# Altium footprint library resistors.PcbLib: 50 footprints (part 1 of 4)
Each footprint in its own frame and in the unit in brackets; x right, y up, seen from the top. Pads: shape width x height; smd on the part's side, far side on the other; paste and mask are expansions set on the pad; w line width, h text height; cw(c..) or ccw(c..) is an arc to the next point about the centre after c.
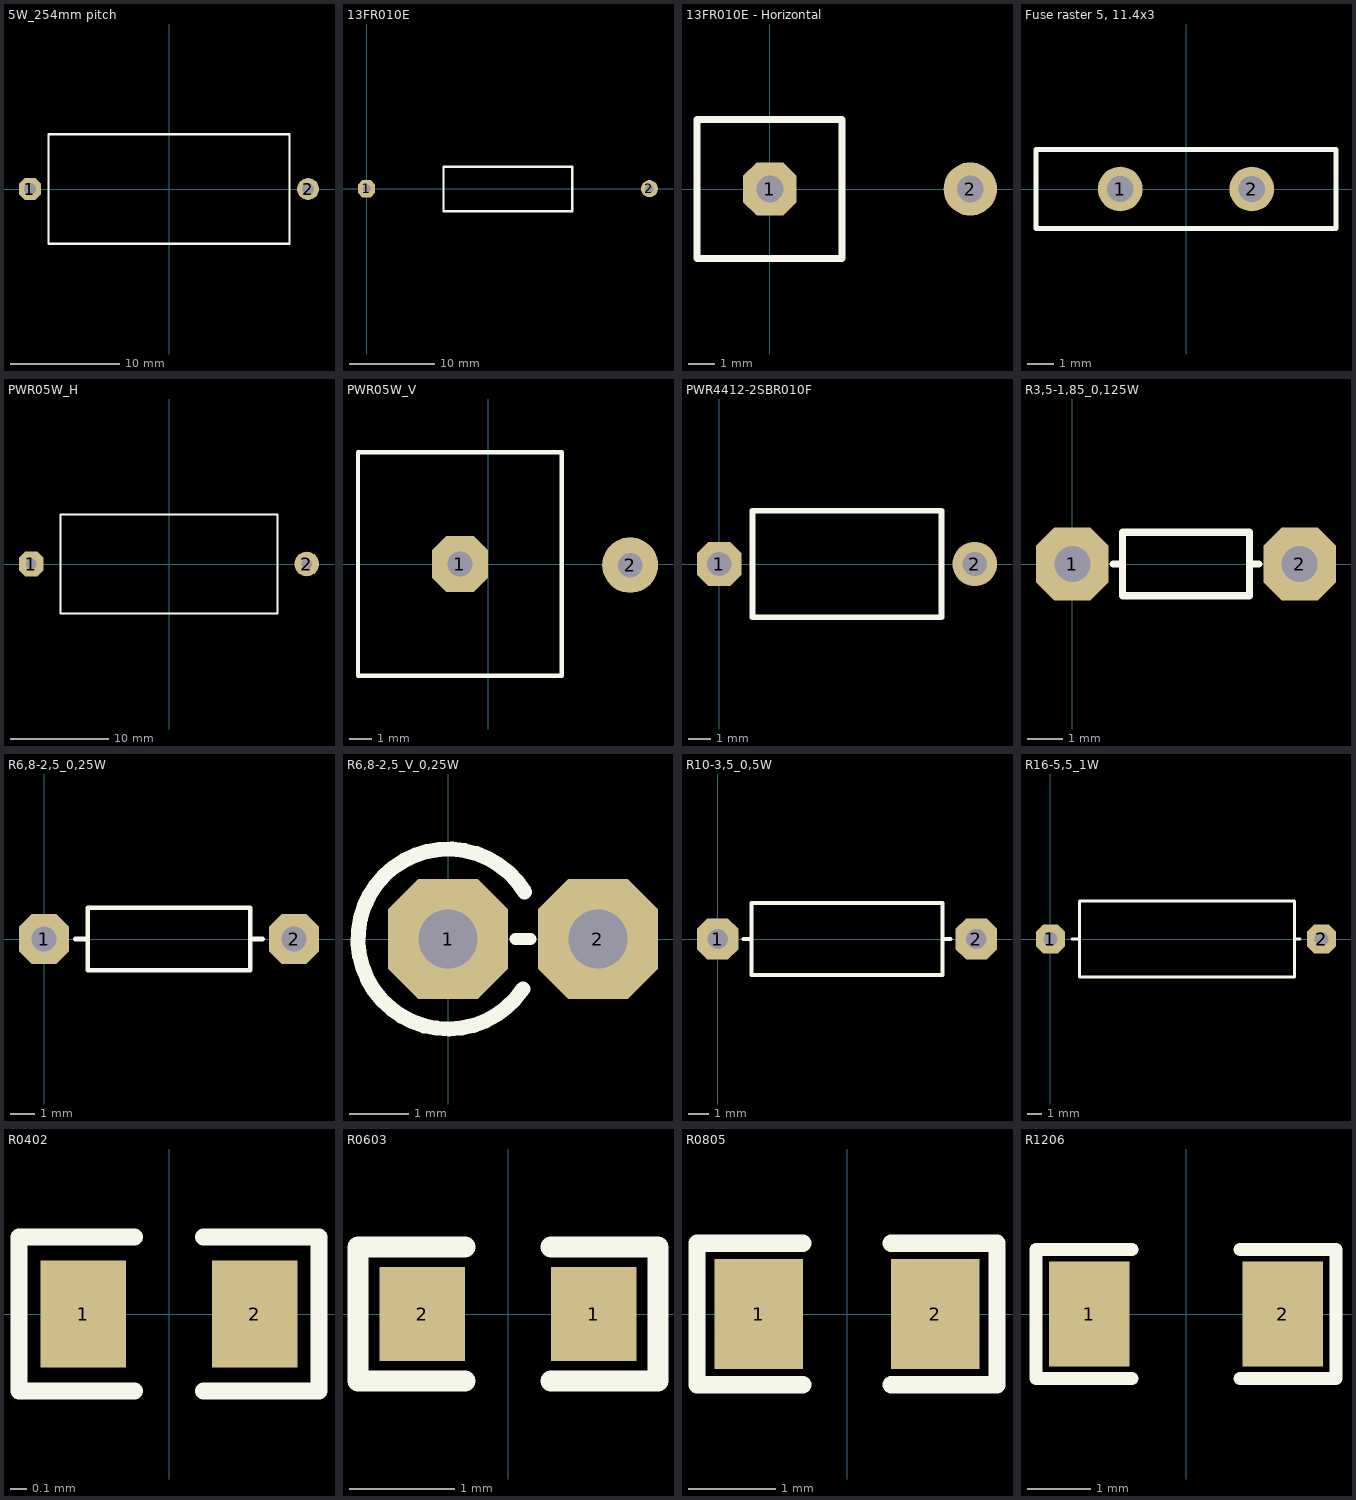
[diagram p0: the footprints below, top view; thin cyan lines are the x and y axes]

## 5W_254mm pitch [mm]
height 10
pads (2):
  oct 2x2 hole 1.1: 1(-12.7,0)
  round 2 hole 1.1: 2(12.7,0)
Top Overlay:
  lines w0.2: -11,-5 -11,5 11,5 11,-5 -11,-5
3D body "User Library-Resistor 5W Length 22mm, pitch 1in.step": height 9.5, standoff -4.94, extent -13.1,-4.75 13.1,4.75
3D body "User Library-Cement Fixed Resistors 5W 1K5 PCB Horizontal.step": height 9, standoff -3.6, extent -14.345,-15.16 14.345,-5.16

## 13FR010E [mm] "Ohmite 3W 0.01R"
pads (2):
  oct 2x2 hole 1: 1(0,0)
  round 2 hole 1: 2(33,0)
Top Overlay:
  lines w0.254: 8.97,-2.637 8.97,2.57 24,2.57 24,-2.637 8.97,-2.637

## 13FR010E - Horizontal [mm] "Ohmite 3W 0.01R"
pads (2):
  oct 2x2 hole 1: 1(0,0)
  round 2 hole 1: 2(7.5,0)
Top Overlay:
  lines w0.254: -2.73,-2.6 2.7,-2.6 2.7,2.6 -2.73,2.6 -2.73,-2.6

## Fuse raster 5, 11.4x3 [mm]
pads (2):
  round 1.7 hole 1: 1(-2.5,0) 2(2.5,0)
Top Overlay:
  lines w0.2: -5.7,-1.5 -5.7,0 -5.7,1.5 5.7,1.5 5.7,-1.5 -5.7,-1.5

## PWR05W_H [mm]
height 10
pads (2):
  oct 2.5x2.5 hole 1.1: 1(-13.97,0)
  round 2.5 hole 1.1: 2(13.97,0)
Top Overlay:
  lines w0.2: -11,-5 11,-5 11,5 -11,5 -11,-5
3D body "User Library-Cement Fixed Resistors 5W 1K5 PCB Horizontal.step": height 9, standoff -3.6, extent -14.345,-5 14.345,5

## PWR05W_V [mm]
height 10
pads (2):
  oct 2.5x2.5 hole 1.1: 1(-1.27,0)
  round 2.5 hole 1.1: 2(6.356,-0.049)
Top Overlay:
  lines w0.2: -5.842,-5 3.302,-5 3.302,5 -5.842,5 -5.842,-5
3D body "User Library-Cement Fixed Resistors 5W 5R6 PCB Vertical.step": height 26.34, standoff -2.6, extent -5.763,-5.048 6.732,4.952

## PWR4412-2SBR010F [mm] "BOURNS 1W 0.01R"
pads (2):
  oct 2x2 hole 1.1: 1(0,0)
  round 2 hole 1.1: 2(11.5,0)
Top Overlay:
  lines w0.254: 1.5,-2.4 1.5,2.4 10,2.4 10,-2.4 1.5,-2.4

## R3,5-1,85_0,125W [mil] "Carbon Film Fixed Resistor - 1/8 W (0,125W)"
height 72.83
pads (2):
  oct 80x80 hole 39.37: 1(0,0) 2(250,0)
Top Overlay:
  lines w7.87: 45,0 55,0 ; 195,0 205,0 ; 55,-35 195,-35 195,35 55,35 55,-35
3D body "SW3dPS-Res_Normal (0.25W).STEP": height 83.55, standoff -70.87, extent -10,-36.23 260,36.24

## R6,8-2,5_0,25W [mil] "Carbon Film Fixed Resistor - 1/4 W (0,25W)"
height 98.43
pads (2):
  oct 80x80 hole 39.37: 1(0,0) 2(400,0)
Top Overlay:
  lines w7.87: 50,0 70,0 ; 330,0 350,0 ; 70,-50 330,-50 330,50 70,50 70,-50
3D body "__SW3dPS-RESISTOR, 0.25 W, 0.4 IN LEAD PITCH.STEP": height 99.75, standoff -115.75, extent -10,-45.5 414,45.5

## R6,8-2,5_V_0,25W [mil] "Carbon Film Fixed Resistor Standing - 1/4 W (0,25W)"
height 98.43
pads (2):
  oct 80x80 hole 39.37: 1(0,0) 2(100,0)
Top Overlay:
  lines w7.87: 45,0 55,0
  lines w10: 49.92,-33.28 cw(c0,0) 51.1,31.45
3D body "SW3dPS-Res_Stand.STEP": height 285.43, standoff -59.06, extent -36.3,-36.24 109.85,36.24

## R10-3,5_0,5W [mil] "Carbon Film Fixed Resistor - 1/2 W (0,5W)"
height 137.8
pads (2):
  oct 80x80 hole 39.37: 1(0,0) 2(500,0)
Top Overlay:
  lines w7.87: 50,0 65,0 ; 435,0 450,0 ; 65,-70 435,-70 435,70 65,70 65,-70

## R16-5,5_1W [mil] "Carbon Film Fixed Resistor - 1W"
height 216.54
pads (2):
  oct 80x80 hole 39.37: 1(0,0) 2(750,0)
Top Overlay:
  lines w7.87: 60,0 75,0 ; 675,0 690,0 ; 80,-105 80,105 675,105 675,-105 80,-105

## R0402 [mil]
pads (2):
  rect 20x25 smd: 1(-20,0) 2(20,0)
Top Overlay:
  lines w3.94: -8,-18 -35,-18 -35,18 -8,18 ; 8,-18 35,-18 35,18 8,18
3D body "User Library-0402 SMD Resistor.step": height 7.95, standoff 0, extent -19.68,-11.69 19.69,11.93

## R0603 [mil]
pads (2):
  rect 32x35 smd: 1(32,0) 2(-32,0)
Top Overlay:
  lines w7.87: -16,-25 -56,-25 -56,25 -16,25 ; 16,-25 56,-25 56,25 16,25
3D body "User Library-0603 SMD Resistor.step": height 11.89, standoff 0, extent -31.49,-15.74 31.5,15.75

## R0805 [mil]
height 49.21
pads (2):
  rect 40x50 smd: 1(-40,0) 2(40,0)
Top Overlay:
  lines w7.87: -20,-32 -68,-32 -68,32 -20,32 ; 20,-32 68,-32 68,32 20,32
3D body "User Library-0805 SMD Resistor.step": height 30.79, standoff 0, extent -39.36,-24.6 39.37,24.61

## R1206 [mil]
height 86.61
pads (2):
  rect 50x65 smd: 1(-60,0) 2(60,0)
Top Overlay:
  lines w7.87: -33.46,-40 -93,-40 -93,40 -33.46,40 ; 33.46,-40 92.91,-40 92.91,40 33.46,40
3D body "User Library-1206 SMD Resistor.step": height 39.45, standoff 0, extent -62.98,-31.49 63,31.5